# EAGLE library part 24CXXX (library balto)
24C series I2C EEPROM
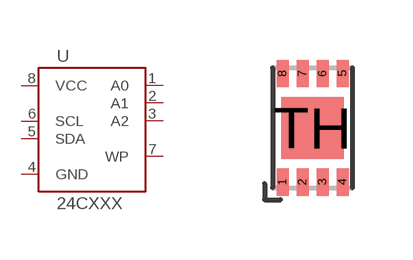
[diagram p80: symbol with the pads of DFN8; footprint DFN8]

Designator prefix U

## 24CXXX  [DFN8]
1  A0
2  A1
3  A2
4  GND
5  SDA
6  SCL
7  WP
8  VCC

## Footprint DFN8 (pad centres in mm)
3x2mm DFN-8
smd 0.3 x 0.68: 1 -0.75,-1.36; 2 -0.25,-1.36; 3 0.25,-1.36; 4 0.75,-1.36; 5 0.75,1.36; 6 0.25,1.36; 7 -0.25,1.36; 8 -0.75,1.36
smd 1.56 x 1.55: TH 0,0